# Altium footprint library IF0505S-2W.PcbLib: 1 footprints
Each footprint in its own frame and in the unit in brackets; x right, y up, seen from the top. Pads: shape width x height; smd on the part's side, far side on the other; paste and mask are expansions set on the pad; w line width, h text height; cw(c..) or ccw(c..) is an arc to the next point about the centre after c.
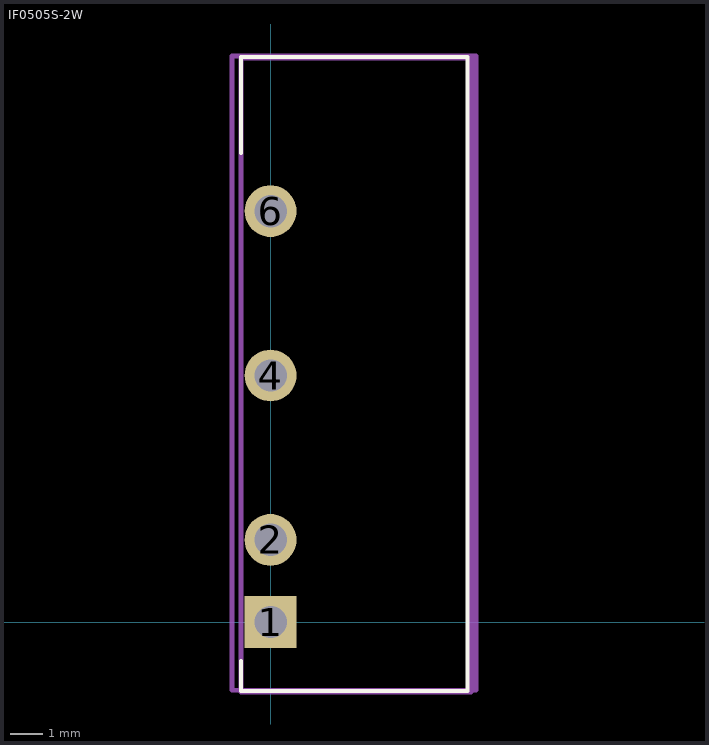
[diagram p0: the footprint, top view; thin cyan lines are the x and y axes]

## IF0505S-2W [mm]
pads (4):
  rect 1.6x1.6 hole 1: 1(0,0)
  round 1.6 hole 1: 2(0,2.54) 4(0,7.62) 6(0,12.7)
Top Overlay:
  lines w0.127: -0.914,-1.2 -0.914,-2.134 6.045,-2.134 ; -0.914,14.5 -0.914,17.466 6.086,17.466 6.086,-2.134
Mechanical 13:
  lines w0.152: -0.909,-2.167 -0.909,17.433 6.191,17.433 6.191,-2.167 -0.909,-2.167
Mechanical 15:
  lines w0.152: -1.194,-2.108 -1.194,17.501 6.35,17.501 6.35,-2.108 6.02,-2.108 -1.194,-2.108
3D body: height 10.1, standoff -3.5, extent -0.909,-2.167 6.191,17.433